# Altium schematic symbol library 3557-2.Schlib: 1 symbol
Pins are listed as number, name and electrical type; pins without a type are passive.

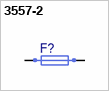
[diagram p0: symbol 3557-2]

## 3557-2
designator F?, comment F  (value not drawn)
Fuse
pins: 1, 2
1 alternate drawing of the same symbol